# EAGLE library part SPARKFUN_ARDUINO_SERIAL_PROGRAM (library Arduino-Pro-Mini)
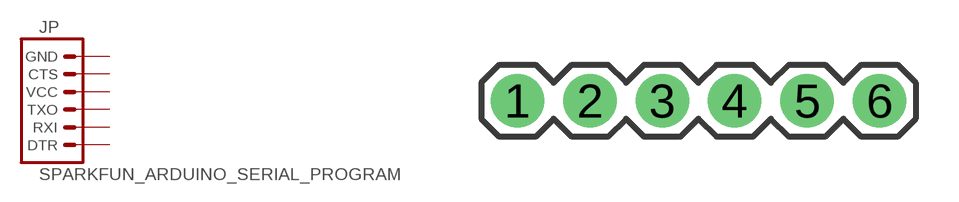
[diagram p0: symbol with the pads of SPARKFUN_1X06; footprint SPARKFUN_1X06]

Designator prefix JP

## SPARKFUN_ARDUINO_SERIAL_PROGRAMPTH  [SPARKFUN_1X06]
1  DTR  pas
2  RXI  pas
3  TXO  pas
4  VCC  pas
5  CTS  pas
6  GND  pas

## Footprint SPARKFUN_1X06 (pad centres in mm)
drill 1.016 pad 1.88: 1 0,0; 2 2.54,0; 3 5.08,0; 4 7.62,0; 5 10.16,0; 6 12.7,0